# Altium integrated library SelfDrivingCar_Lib_Bittersweet.IntLib: 10 symbols
Pins are listed as number, name and electrical type; pins without a type are passive.

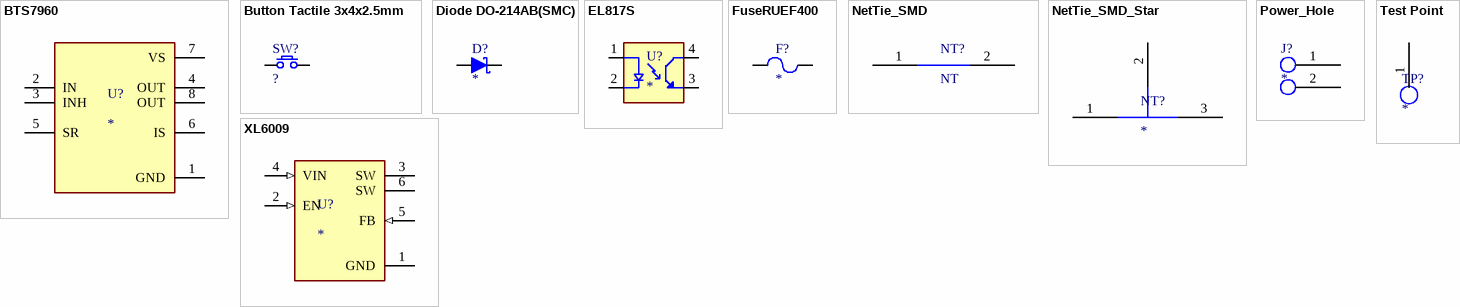
[diagram p0: symbols BTS7960 to XL6009]

## BTS7960
designator U?
IC Control motor
footprint P-TO-263-7
pins: 1 GND (power), 2 IN, 3 INH, 4 OUT, 5 SR, 6 IS, 7 VS (power), 8 OUT

## Button Tactile 3x4x2.5mm
designator SW?, comment ?
Button Tafctile 3x4x2.5 mm. 2 pin SMD; ComponentLink1Description: URL; ComponentLink1URL: https://www.thegioiic.com/nut-nhan-3x4mm-cao-2-5mm-2-chan-smd
footprint Button
pins: 1, 2

## Diode DO-214AB(SMC)
designator D?
Diode Schottky SS54 SMC
pins: 1 A, 2 K

## EL817S
designator U?
Optocouplers 5000Vrms 1 Channel, 4-SMD
footprint EL817S
pins: 1 A, 2 C, 3 ET, 4 CT

## FuseRUEF400
designator F?
RUEF400 30V 4A
footprint FuseRUEF400
pins: 1, 2

## NetTie_SMD
designator NT?, comment NT  (net tie, no BOM)
footprint NETTIE_0_5mm
footprint NETTIE_2_0mm
pins: 1, 2

## NetTie_SMD_Star
designator NT?
footprint NET_TIE STAR
pins: 1, 2, 3

## Power_Hole
designator J?
Power Hole, THT
footprint Power_Hole_2mm_THT
footprint CON (Footprint not found)
pins: 1 0, 2 1

## Test Point
designator TP?
Test Point
footprint TP_1_5mm_SMD
pins: 1

## XL6009
designator U?
IC switching boost voltage
footprint XL6009
pins: 1 GND (power), 2 EN (in), 3 SW, 4 VIN (in), 5 FB (in), 6 SW